# EAGLE library part 632722100213 (library WR-USB)
WR-USB Type C Connectors Characteristics Available in 24p (3.x), 16p (2.0) and 6p (Power Delivery only) Aligned with Power Delivery up to 240W High durability (10 000 cycles) UL, TID listing for USB standards Applications Mobile computing and smart devices High-performance industrial and medical systems Consumer electronics and multimedia hubs Smart buildings Details see: www.we-online.com/en/components/products/INPUT_OUTPUT_WR_USB_STANDARD Updated by Ella 2026-07-03 2026 (C) Würth Elektronik
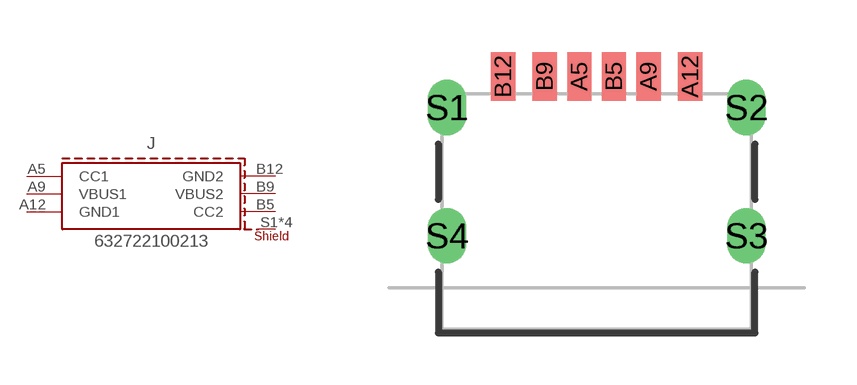
[diagram p27: symbol with the pads of 632722100213; footprint 632722100213]

Designator prefix J

## 632722100213 (APPLICATION: USB Power Delivery; DATASHEET: https://www.we-online.com/redexpert/spec/632722100213?ae; GERDER: Receptacle; INTERFACE-TYPE: Type C; IR: 5 A; MOUNT: SMT; PACKAGING: Tape and Reel; PART-NUMBER: 632722100213; PCB-THICKNESS: 1 mm; PINS: 6pcs; TYPE: Horizontal; VALUE: 632722100213; WORKING-VOLTAGE: 48 V (DC))  [632722100213]
A5  CC1  pas
A9  VBUS1  pas
A12  GND1  pas
B5  CC2  pas
B9  VBUS2  pas
B12  GND2  pas
S1  SHIELD1  pas
S2  SHIELD1  pas
S3  SHIELD1  pas
S4  SHIELD1  pas

## Footprint 632722100213 (pad centres in mm)
WR-USB Type C Connectors USB Power Delivery, Type C, Horizontal SMT, 6Pins, PCB Thickness:1 mm
smd 0.7 x 1.4: A5 -0.5,2.75; A9 1.5,2.75; A12 2.7,2.75; B5 0.5,2.75; B9 -1.5,2.75; B12 -2.7,2.75
drill 0.6 pad 0.85 slot 1.1 rotated 90: S1 -4.32,1.85; S2 4.32,1.85; S3 4.32,-1.85; S4 -4.32,-1.85